# EAGLE library part THS1041 (library satellite)
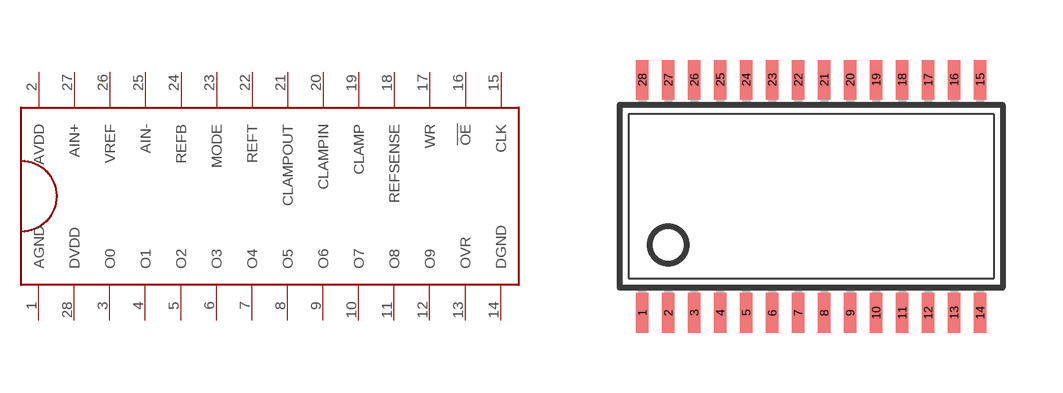
[diagram p6: symbol with the pads of TSSOP28; footprint TSSOP28]

Designator prefix -

## THS1041  [TSSOP28]
1  AGND
2  AVDD
3  O0
4  O1
5  O2
6  O3
7  O4
8  O5
9  O6
10  O7
11  O8
12  O9
13  OVR
14  DGND
15  CLK
16  !OE
17  WR
18  REFSENSE
19  CLAMP
20  CLAMPIN
21  CLAMPOUT
22  REFT
23  MODE
24  REFB
25  AIN-
26  VREF
27  AIN+
28  DVDD

## Footprint TSSOP28 (pad centres in mm)
Thin Shrink Small Outline Plastic 28 MAX3223-MAX3243.pdf
smd 0.305 x 0.991: 1 -4.225,-2.918; 2 -3.575,-2.918; 3 -2.925,-2.918; 4 -2.275,-2.918; 5 -1.625,-2.918; 6 -0.975,-2.918; 7 -0.325,-2.918; 8 0.325,-2.918; 9 0.975,-2.918; 10 1.625,-2.918; 11 2.275,-2.918; 12 2.925,-2.918; 13 3.575,-2.918; 14 4.225,-2.918; 15 4.225,2.918; 16 3.575,2.918; 17 2.925,2.918; 18 2.275,2.918; 19 1.625,2.918; 20 0.975,2.918; 21 0.325,2.918; 22 -0.325,2.918; 23 -0.975,2.918; 24 -1.625,2.918; 25 -2.275,2.918; 26 -2.925,2.918; 27 -3.575,2.918; 28 -4.225,2.918